# Altium schematic symbol library Switching_Regulators_Sch.SchLib: 11 symbols
Pins are listed as number, name and electrical type; pins without a type are passive.

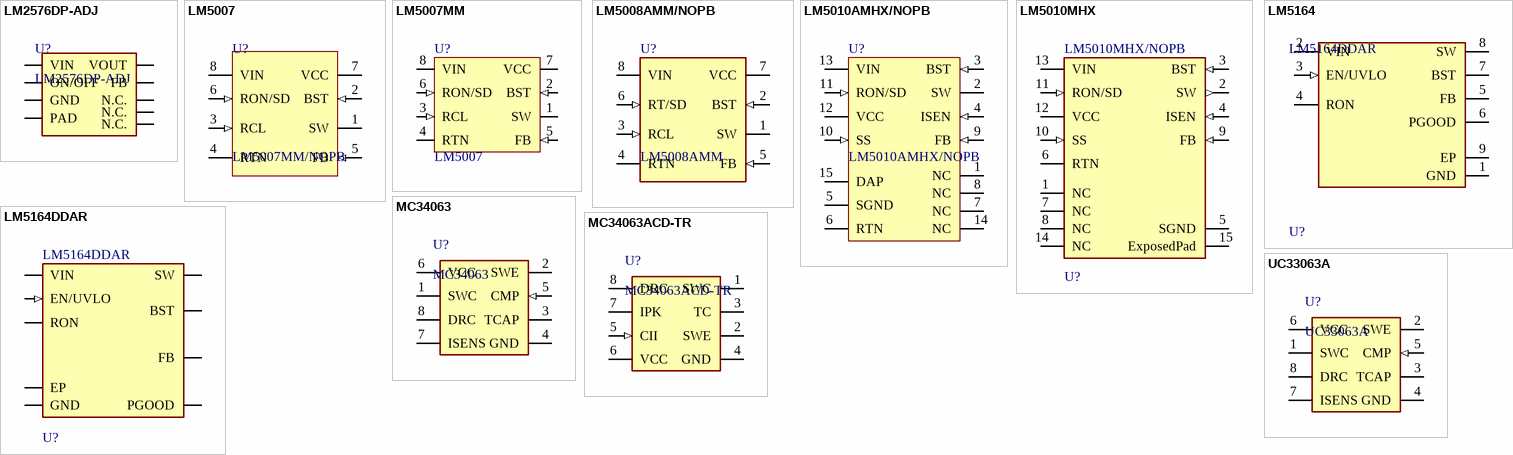
[diagram p0: symbols LM2576DP-ADJ to UC33063A]

## LM2576DP-ADJ
designator U?
3A, 52kHz, Step-Down Switching Regulator; Manufacturer: HTC; Input Voltage: 40V; Outpur Type: Adjustable; Switching Frequency: 52kHz; Package/Case: SOP8 PP
footprint SOP8 PP
pins: 1 VIN, 2 VOUT, 3 FB, 4 ON/OFF, 5 N.C., 6 GND, 7 N.C., 8 N.C., 9 PAD

## LM5007
designator U?, comment LM5007MM/NOPB
High Voltage (80V) Step Down Switching Regulator, 8-pin MSOP, Pb-Free; Manufacturer: Texas Instruments; CompType: Switcher; PackageTopMarking: ZXTT*S81B; PowerWise: N; ComponentLink1Description: Datasheet URL; PackageDescription: MINI SOIC, .118 x .118 x .034in, 8 Lead, .0256in Pitch; RoHS: Y; PinCount: 8; ComponentLink1URL: http://www.ti.com/general/docs/lit/getliterature.tsp?genericPartNumber=LM5007&fileType=pdf; PackageReference: DGK0008A; Code_JEDEC: MO-187-AA
footprint DGK0008A_L (TSOP, 8-Leads, Body 3.1x3.1mm, Pitch 0.65mm, IPC High Density)
footprint DGK0008A_M (TSOP, 8-Leads, Body 3.1x3.1mm, Pitch 0.65mm, IPC Low Density)
footprint DGK0008A_N (TSOP, 8-Leads, Body 3.1x3.1mm, Pitch 0.65mm, IPC Medium Density)
pins: 1 SW (power), 2 BST (in), 3 RCL (in), 4 RTN (power), 5 FB (in), 6 RON/SD (in), 7 VCC (power), 8 VIN (power)

## LM5007MM
designator U?, comment LM5007
High Voltage (80V) Step Down Switching Regulator, 8-pin MSOP; Manufacturer: Texas Instruments; PackageTopMarking: ZXTT*S81B; PowerWise: N; CompType: Switcher; ComponentLink1URL: http://www.ti.com/general/docs/lit/getliterature.tsp?genericPartNumber=LM5007&fileType=pdf; PinCount: 8; RoHS: N; PackageDescription: MINI SOIC, .118 x .118 x .034in, 8 Lead, .0256in Pitch; PackageReference: DGK0008A; Code_JEDEC: MO-187-AA; ComponentLink1Description: Datasheet URL
footprint DGK0008A_L (TSOP, 8-Leads, Body 3.1x3.1mm, Pitch 0.65mm, IPC High Density)
footprint DGK0008A_M (TSOP, 8-Leads, Body 3.1x3.1mm, Pitch 0.65mm, IPC Low Density)
footprint DGK0008A_N (TSOP, 8-Leads, Body 3.1x3.1mm, Pitch 0.65mm, IPC Medium Density)
pins: 1 SW (power), 2 BST (in), 3 RCL (in), 4 RTN (power), 5 FB (in), 6 RON/SD (in), 7 VCC (power), 8 VIN (power)

## LM5008AMM/NOPB
designator U?, comment LM5008AMM
100V, 350 mA Constant On-Time Buck Switching Regulator, 8-pin MSOP, Pb-Free; Manufacturer: Texas Instruments; CompType: Switcher; PackageTopMarking: ZXTT*SAYA; PowerWise: N; Code_JEDEC: MO-187-AA; ComponentLink1Description: Datasheet URL; RoHS: Y; PinCount: 8; PackageReference: DGK0008A; PackageDescription: MINI SOIC, .118 x .118 x .034in, 8 Lead, .0256in Pitch; ComponentLink1URL: http://www.ti.com/general/docs/lit/getliterature.tsp?genericPartNumber=LM5008A&fileType=pdf
footprint DGK0008A_L (TSOP, 8-Leads, Body 3.1x3.1mm, Pitch 0.65mm, IPC High Density)
footprint DGK0008A_M (TSOP, 8-Leads, Body 3.1x3.1mm, Pitch 0.65mm, IPC Low Density)
footprint DGK0008A_N (TSOP, 8-Leads, Body 3.1x3.1mm, Pitch 0.65mm, IPC Medium Density)
pins: 1 SW (power), 2 BST (in), 3 RCL (in), 4 RTN (power), 5 FB (in), 6 RT/SD (in), 7 VCC (power), 8 VIN (power)

## LM5010AMHX/NOPB
designator U?
High Voltage 1A Step Down Switching Regulator, 14-pin TSSOP-EP, Pb-Free; Manufacturer: Texas Instruments; CompType: Switcher; PackageTopMarking: NSUZXYTT*L5010*AMH; PowerWise: N; ComponentLink1Description: Datasheet URL; PackageReference: PWP0014A; Code_JEDEC: MO-153-ABT-1; RoHS: Y; PinCount: 14; ComponentLink1URL: http://www.ti.com/general/docs/lit/getliterature.tsp?genericPartNumber=LM5010A&fileType=pdf; PackageDescription: Molded TSSOP, JEDEC, Exposed Pad, 5.0 x 4.4 x 0.9mm Body, 14 Lead, 0.65mm Pitch
footprint PWP0014A_N (SOP, 14-Leads, Body 5.1x4.5mm, Pitch 0.65mm, Thermal Pad 3x3.1mm, IPC Medium Density)
footprint PWP0014A_M (SOP, 14-Leads, Body 5.1x4.5mm, Pitch 0.65mm, Thermal Pad 3x3.1mm, IPC Low Density)
footprint PWP0014A_L (SOP, 14-Leads, Body 5.1x4.5mm, Pitch 0.65mm, Thermal Pad 3x3.1mm, IPC High Density)
pins: 1 NC, 2 SW (power), 3 BST (in), 4 ISEN (in), 5 SGND (power), 6 RTN (power), 7 NC, 8 NC, 9 FB (in), 10 SS (in), 11 RON/SD (in), 12 VCC (power), 13 VIN (power), 14 NC, 15 DAP (power)

## LM5010MHX
designator U?, comment LM5010MHX/NOPB
IC REG BUCK ADJ 1A 14HTSSOP; Efficiency: 91%; Operating Supply Voltage: 7.4V; Output Voltage: 70V; Quiescent Current: 650uA; Min Input Voltage: 8V; Switching Frequency: 1MHz; Max Input Voltage: 75V; Number of Outputs: 1; Output Type: Adjustable; Synchronous Rectifier: No; Output Current: 1A; Packaging: Tape and Reel; Case/Package: TSSOP; Mount: Surface Mount; Min Operating Temperature: -40°C; Contact Plating: Tin; Lead Free: Lead Free; RoHS Compliant: Yes; Package Quantity: 2500; Series: LM5010; Number of Pins: 14; Max Operating Temperature: 125°C; Max Output Current: 1A; Radiation Hardening: No
footprint FP-PWP0014A-MFG
footprint FP-PWP0014A-IPC_C
footprint FP-PWP0014A-IPC_B
footprint FP-PWP0014A-IPC_A
pins: 1 NC, 2 SW (out), 3 BST (in), 4 ISEN (in), 5 SGND (power), 6 RTN (power), 7 NC, 8 NC, 9 FB (in), 10 SS (in), 11 RON/SD (in), 12 VCC (power), 13 VIN (power), 14 NC, 15 ExposedPad (power)

## LM5164
designator U?, comment LM5164DDAR
DC/DC Switching converter ic; Manufacturer: Texas Instruments; Standoff Height: 0mm; Max Supply Voltage: 100V; Output Voltage: 1.2-90V; Max Duty Cycle: 99%; Nominal Supply Current: 600uA; Output Current: 1A; Min Supply Voltage: 6V; Output Type: AdjustableProgrammable; Max Junction Temp: +150°C; Number Of Outputs: 1; Switching Frequency: 1000kHz; Switching Topology: Buck; Temperature: -40°C to +150°C; Device Class L1: Integrated Circuits (ICs); Automotive: No; Lead Free: Yes; Package: DDA0008E; Device Class L3: Voltage Regulators - Switching; Manufacturer Part Number: LM5164DDAR; Device Class L2: Power Management ICs; RoHS: TRUE; Mouser Description: 6-V to 100-V input, 1-A synchronous buck DC-DC converter with ultra-low IQ 8-SO PowerPAD -40 to 150; Temperature Range Low: -40°C; ComponentLink2Description: Datasheet; Temperature Range High: +150°C; ComponentLink2URL: http://www.ti.com/lit/ds/symlink/lm5164.pdf; Digikey Description: POWER MANAGEMENT; Category: IC; Octopart: https://octopart.com/lm5164ddar-texas+instruments-96785744
footprint FP-DDA0008E-MFG
footprint FP-DDA0008E-IPC_C
footprint FP-DDA0008E-IPC_B
footprint FP-DDA0008E-IPC_A
pins: 1 GND (power), 2 VIN (power), 3 EN/UVLO (in), 4 RON, 5 FB, 6 PGOOD (oc), 7 BST, 8 SW, 9 EP

## LM5164DDAR
designator U?
POWER MANAGEMENT; Manufacturer: Texas Instruments; Standoff Height: 0mm; Max Supply Voltage: 100V; Output Voltage: 1.2-90V; Max Duty Cycle: 99%; Nominal Supply Current: 600uA; Output Current: 1A; Min Supply Voltage: 6V; Output Type: AdjustableProgrammable; Max Junction Temp: +150°C; Number Of Outputs: 1; Switching Frequency: 1000kHz; Switching Topology: Buck; Temperature: -40°C to +150°C; Device Class L1: Integrated Circuits (ICs); Automotive: No; Lead Free: Yes; Package: DDA0008E; Device Class L3: Voltage Regulators - Switching; Manufacturer Part Number: LM5164DDAR; Device Class L2: Power Management ICs; RoHS: TRUE; Mouser Description: 6-V to 100-V input, 1-A synchronous buck DC-DC converter with ultra-low IQ 8-SO PowerPAD -40 to 150; Temperature Range Low: -40°C; ComponentLink2Description: Datasheet; Temperature Range High: +150°C; ComponentLink2URL: http://www.ti.com/lit/ds/symlink/lm5164.pdf; Digikey Description: POWER MANAGEMENT; Category: IC; Octopart: https://octopart.com/lm5164ddar-texas+instruments-96785744; ComponentLink3Description: Link; ComponentLink3URL: https://ozdisan.com/integrated-circuits-ics/power-management-ics/dc-dc-switching-voltage-regulators/LM5164DDAR/727188
footprint FP-DDA0008E-IPC_B
footprint FP-DDA0008E-IPC_C
footprint FP-DDA0008E-MFG
footprint FP-DDA0008E-IPC_A
pins: 1 GND (power), 2 VIN (power), 3 EN/UVLO (in), 4 RON, 5 FB, 6 PGOOD (oc), 7 BST, 8 SW, 9 EP

## MC34063
designator U?
MC34063EB Series 40 V 1.5 A DC / DC Converter Control Circuit SMT - SOIC-8; Input Voltage: 3-40V; Output Current: 1.5A; Switching Frequency: 10-100kHz; Package: SO8; ComponentLink3Description: Link; ComponentLink3URL: https://ozdisan.com/entegre-devreler-icler/guc-entegreleri/dc-dc-voltaj-regulatorleri/MC34063EBD-TR/470679
footprint SO8_L (SOIC, 8-Leads, Body 4.9x3.9mm, Pitch 1.27mm, IPC High Density)
footprint SO8_M (SOIC, 8-Leads, Body 4.9x3.9mm, Pitch 1.27mm, IPC Low Density)
footprint SO8_N (SOIC, 8-Leads, Body 4.9x3.9mm, Pitch 1.27mm, IPC Medium Density)
pins: 1 SWC (oc), 2 SWE (oe), 3 TCAP, 4 GND (power), 5 CMP (in), 6 VCC (power), 7 ISENS, 8 DRC (oc)

## MC34063ACD-TR
designator U?
DC/DC converter control circuit, 8-Pin SO, Tape and Reel; ComponentLink2Description: Datasheet; ComponentLink3Description: Package Specification; PackageDescription: 8-Pin Small Outline Integrated Circuit 1.27 mm Pitch; ComponentLink3URL: http://www.st.com/internet/com/TECHNICAL_RESOURCES/TECHNICAL_LITERATURE/PACKAGE_INFORMATION/CD00004680.pdf; ComponentLink1Description: Manufacturer URL; ComponentLink1URL: http://www.st.com; ComponentLink2URL: http://www.st.com/internet/com/TECHNICAL_RESOURCES/TECHNICAL_LITERATURE/DATASHEET/CD00001232.pdf; PackageReference: SO8
footprint SO8_L (SOIC, 8-Leads, Body 4.9x3.9mm, Pitch 1.27mm, IPC High Density)
footprint SO8_M (SOIC, 8-Leads, Body 4.9x3.9mm, Pitch 1.27mm, IPC Low Density)
footprint SO8_N (SOIC, 8-Leads, Body 4.9x3.9mm, Pitch 1.27mm, IPC Medium Density)
pins: 1 SWC (oc), 2 SWE (oe), 3 TC, 4 GND (power), 5 CII (in), 6 VCC (power), 7 IPK, 8 DRC (oc)

## UC33063A
designator U?
MC34063EB Series 40 V 1.5 A DC / DC Converter Control Circuit SMT - SOIC-8; PackageReference: SO8; ComponentLink3Description: Link; ComponentLink3URL: https://ozdisan.com/integrated-circuits-ics/power-management-ics/dc-switching-step-down-regulators/UC33063AG-S08-R/1045955
footprint SO8_L (SOIC, 8-Leads, Body 4.9x3.9mm, Pitch 1.27mm, IPC High Density)
footprint SO8_M (SOIC, 8-Leads, Body 4.9x3.9mm, Pitch 1.27mm, IPC Low Density)
footprint SO8_N (SOIC, 8-Leads, Body 4.9x3.9mm, Pitch 1.27mm, IPC Medium Density)
pins: 1 SWC (oc), 2 SWE (oe), 3 TCAP, 4 GND (power), 5 CMP (in), 6 VCC (power), 7 ISENS, 8 DRC (oc)